# Altium footprint library transform.PcbLib: 46 footprints (part 3 of 3)
Each footprint in its own frame and in the unit in brackets; x right, y up, seen from the top. Pads: shape width x height; smd on the part's side, far side on the other; paste and mask are expansions set on the pad; w line width, h text height; cw(c..) or ccw(c..) is an arc to the next point about the centre after c.
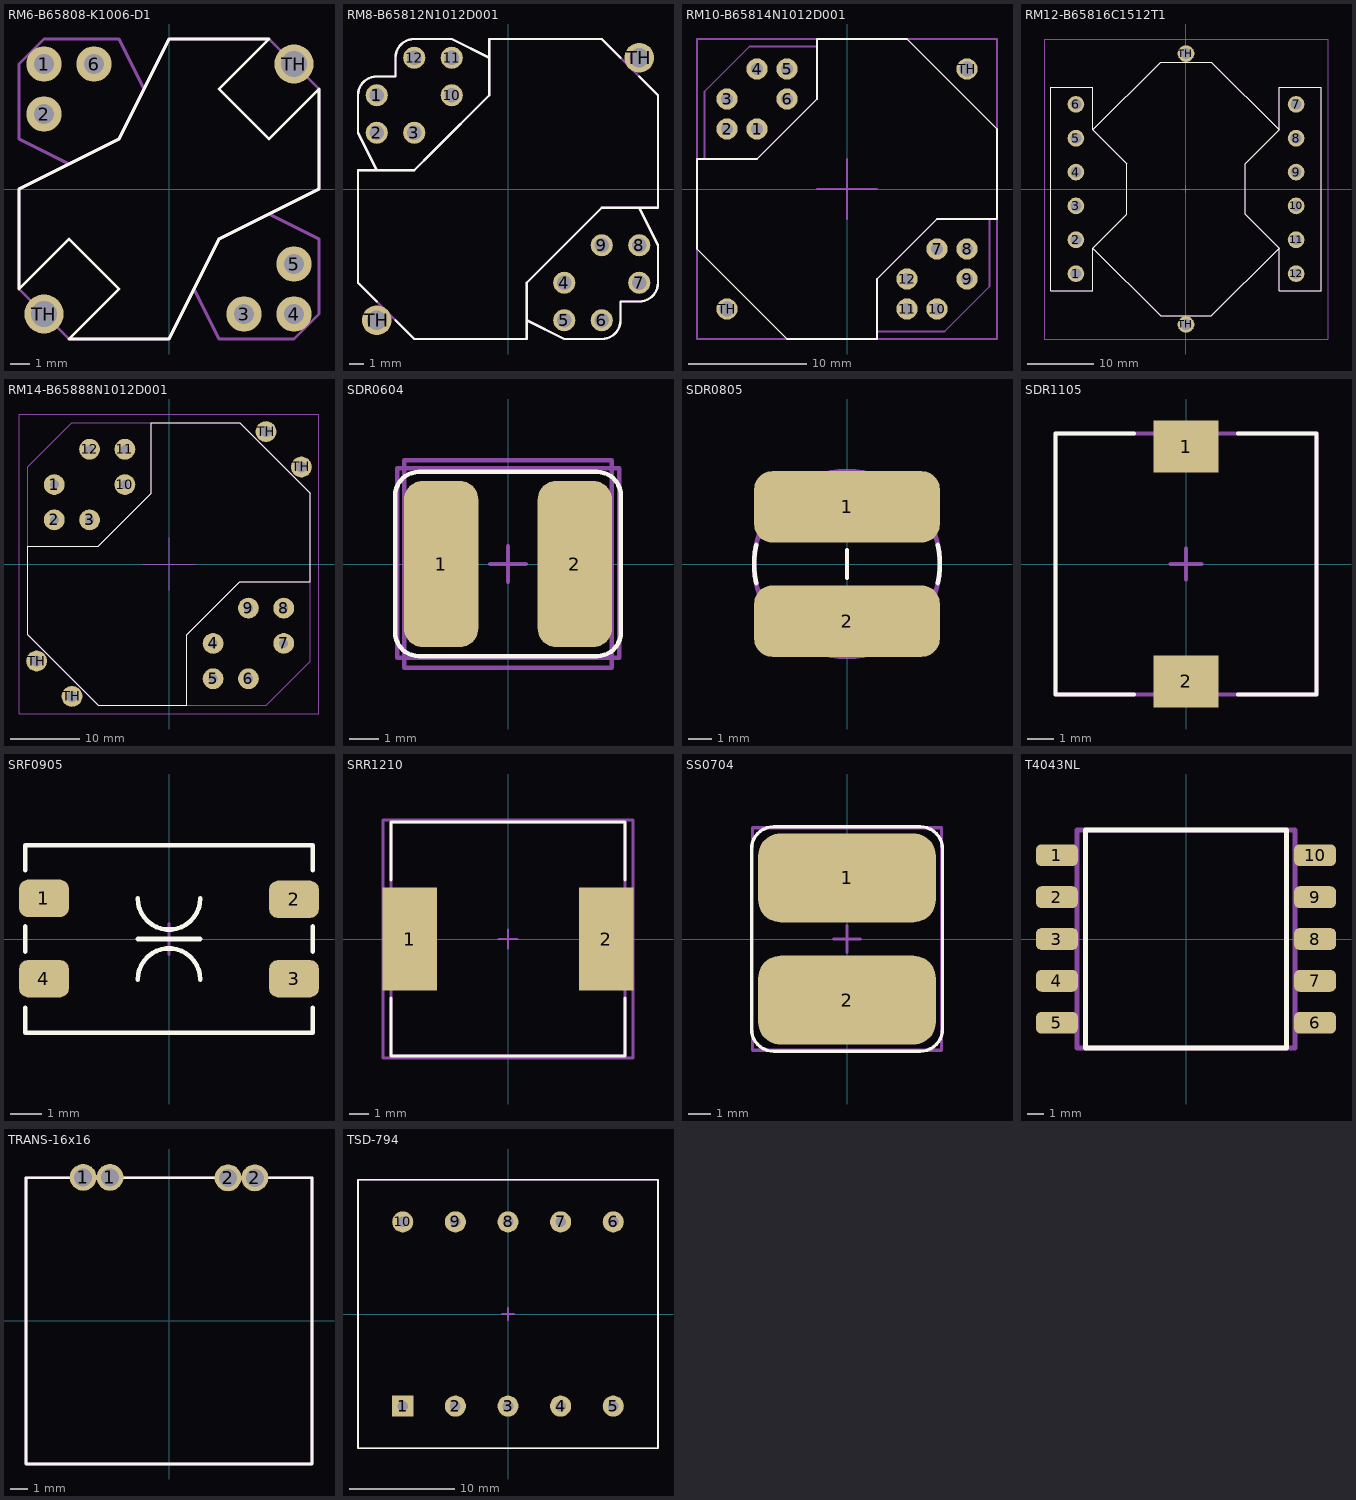
[diagram p2: the footprints below, top view; thin cyan lines are the x and y axes]

## RM6-B65808-K1006-D1 [mm]
height 15
pads (8):
  round 1.8 hole 1: 1(-6.35,6.35) 2(-6.35,3.81) 3(3.81,-6.35) 4(6.35,-6.35) 5(6.35,-3.81) 6(-3.81,6.35)
  round 2 hole 1.3: TH(-6.35,-6.35) TH(6.35,6.35)
Top Overlay:
  lines w0.15: -7.62,-5.08 -7.62,0 -2.54,2.54 0,7.62 5.08,7.62 2.54,5.08 5.08,2.54 7.62,5.08 7.62,0 2.54,-2.54 0,-7.62 -5.08,-7.62 -2.54,-5.08 -5.08,-2.54 -7.62,-5.08
Mechanical 29:
  lines w0.15: -5.08,1.27 -7.62,2.54 -7.62,6.35 -6.35,7.62 -2.54,7.62 -1.27,5.08 ; 1.27,-5.08 2.54,-7.62 3.81,-7.62 6.35,-7.62 7.62,-6.35 7.62,-2.54 5.08,-1.27 ; -7.62,-5.08 -7.62,0 -2.54,2.54 0,7.62 5.08,7.62 7.62,5.08 7.62,0 2.54,-2.54 0,-7.62 -5.08,-7.62 -7.62,-5.08
3D body "RM6.STEP": height 12.6, standoff -4.67, extent -7.843,-7.843 7.843,7.843

## RM8-B65812N1012D001 [mm]
height 17
pads (14):
  round 1.5 hole 1: 1(-8.89,6.35) 2(-8.89,3.81) 3(-6.35,3.81) 4(3.81,-6.35) 5(3.81,-8.89) 6(6.35,-8.89) 7(8.89,-6.35) 8(8.89,-3.81) 9(6.35,-3.81) 10(-3.81,6.35) 11(-3.81,8.89) 12(-6.35,8.89)
  round 2 hole 1.3: TH(-8.89,-8.89) TH(8.89,8.89)
Top Overlay:
  lines w0.15: -8.89,-7.62 -10.16,-6.35 -10.16,1.27 -6.35,1.27 -5.08,2.54 -1.27,6.35 -1.27,10.16 6.35,10.16 7.62,8.89 ; -8.89,1.27 -10.16,3.81 -10.16,6.35 cw(c-8.89,6.35) -8.89,7.62 -7.62,7.62 -7.62,8.89 cw(c-6.35,8.89) -6.35,10.16 -3.81,10.16 -1.27,8.89 ; -7.62,-8.89 -6.35,-10.16 1.27,-10.16 1.27,-6.35 6.35,-1.27 10.16,-1.27 10.16,5.08 10.16,6.35 8.89,7.62 ; 1.27,-8.89 3.81,-10.16 6.35,-10.16 ccw(c6.35,-8.89) 7.62,-8.89 7.62,-7.62 8.89,-7.62 ccw(c8.89,-6.35) 10.16,-6.35 10.16,-3.81 8.89,-1.27
Mechanical 29:
  lines w0.15: -8.89,1.27 -10.16,3.81 -10.16,6.35 cw(c-8.89,6.35) -8.89,7.62 -7.62,7.62 -7.62,8.89 cw(c-6.35,8.89) -6.35,10.16 -3.81,10.16 -1.27,8.89 ; 1.27,-8.89 3.81,-10.16 6.35,-10.16 ccw(c6.35,-8.89) 7.62,-8.89 7.62,-7.62 8.89,-7.62 ccw(c8.89,-6.35) 10.16,-6.35 10.16,-3.81 8.89,-1.27 ; -10.16,-6.35 -7.62,-8.89 -6.35,-10.16 1.27,-10.16 1.27,-6.35 6.35,-1.27 10.16,-1.27 10.16,5.08 10.16,6.35 7.62,8.89 6.35,10.16 -1.27,10.16 -1.27,6.35 -5.08,2.54 -6.35,1.27 -10.16,1.27 -10.16,-6.35
3D body "RM8.STEP": height 16.75, standoff -3.07, extent -10.51,-10.51 10.512,10.51

## RM10-B65814N1012D001 [mm]
pads (14):
  round 1.8 hole 1: 1(-7.62,5.08) 2(-10.16,5.08) 3(-10.16,7.62) 4(-7.62,10.16) 5(-5.08,10.16) 6(-5.08,7.62) 7(7.62,-5.08) 8(10.16,-5.08) 9(10.16,-7.62) 10(7.62,-10.16) 11(5.08,-10.16) 12(5.08,-7.62)
  round 1.8 hole 1.3: TH(-10.16,-10.16) TH(10.16,10.16)
Top Overlay:
  lines w0.15: -12.7,-5.08 -12.7,2.54 -7.62,2.54 -2.54,7.62 -2.54,12.7 5.08,12.7 12.7,5.08 12.7,-2.54 7.62,-2.54 2.54,-7.62 2.54,-12.7 -5.08,-12.7 -12.7,-5.08
Mechanical 15:
  lines w0.15: -2.54,0 2.54,0 ; 0,-2.54 0,2.54 ; -12.7,-12.7 12.7,-12.7 12.7,12.7 -12.7,12.7 -12.7,-12.7
Mechanical 29:
  lines w0.15: -12.065,2.54 -12.065,8.255 -8.255,12.065 -2.54,12.065 ; 2.54,-12.065 8.255,-12.065 12.065,-8.255 12.065,-2.54 ; -12.7,-5.08 -12.7,2.54 -7.62,2.54 -2.54,7.62 -2.54,12.7 5.08,12.7 12.7,5.08 12.7,-2.54 7.62,-2.54 2.54,-7.62 2.54,-12.7 -5.08,-12.7 -12.7,-5.08
3D body: height 2, standoff 1.5, extent -9.08,5.08 -3.175,12.065
3D body: height 2, standoff 1.5, extent 3.175,-12.065 9.079,-5.08
3D body: height 2, standoff 1.5, extent 5.08,-9.08 12.065,-3.175
3D body: height 19, standoff 0.5, extent -12.7,-12.7 12.7,12.7
3D body: height 4, standoff -3, extent -10.46,4.78 -9.86,5.38
3D body: height 4, standoff -3, extent -10.46,7.32 -9.86,7.92
3D body: height 4, standoff -3, extent -7.92,9.86 -7.32,10.46
3D body: height 4, standoff -3, extent -5.38,9.86 -4.78,10.46
3D body: height 4, standoff -3, extent -5.38,7.32 -4.78,7.92
3D body: height 4, standoff -3, extent -7.92,4.78 -7.32,5.38
3D body: height 4, standoff -3, extent 7.32,-5.38 7.92,-4.78
3D body: height 4, standoff -3, extent 9.86,-5.38 10.46,-4.78
3D body: height 4, standoff -3, extent 9.86,-7.92 10.46,-7.32
3D body: height 4, standoff -3, extent 7.32,-10.46 7.92,-9.86
3D body: height 4, standoff -3, extent 4.78,-10.46 5.38,-9.86
3D body: height 4, standoff -3, extent 4.78,-7.92 5.38,-7.32
3D body: height 2, standoff 1.5, extent -12.065,3.175 -5.08,9.079

## RM12-B65816C1512T1 [mm]
pads (14):
  round 2.5 hole 1.6: 1(-16.51,-12.7) 2(-16.51,-7.62) 3(-16.51,-2.54) 4(-16.51,2.54) 5(-16.51,7.62) 6(-16.51,12.7) 7(16.51,12.7) 8(16.51,7.62) 9(16.51,2.54) 10(16.51,-2.54) 11(16.51,-7.62) 12(16.51,-12.7) TH(0,-20.32) TH(0,20.32)
Top Overlay:
  lines w0.15: -13.97,-8.89 -3.81,-19.05 0,-19.05 3.81,-19.05 13.97,-8.89 ; -13.97,-8.89 -8.89,-3.81 -8.89,0 -8.89,3.81 -13.97,8.89 ; -13.97,-8.89 -13.97,-15.24 -16.51,-15.24 -20.32,-15.24 -20.32,0 -20.32,15.24 -16.51,15.24 -13.97,15.24 -13.97,8.89 ; -13.97,8.89 -3.81,19.05 0,19.05 3.81,19.05 13.97,8.89 ; 13.97,-8.89 8.89,-3.81 8.89,0 8.89,3.81 13.97,8.89 ; 13.97,-8.89 13.97,-12.7 13.97,-15.24 20.32,-15.24 20.32,0 20.32,15.24 16.51,15.24 13.97,15.24 13.97,8.89
Mechanical 15:
  lines w0.15: -0.6,0 0,0 ; 0,-0.6 0,0 ; 0,0.6 0,0 ; 0.6,0 0,0 ; -21.25,-22.5 -21.25,22.5 21.25,22.5 21.25,-22.5 -21.25,-22.5
Mechanical 29:
  lines w0.15: -13.97,-8.89 -3.81,-19.05 0,-19.05 3.81,-19.05 13.97,-8.89 ; -13.97,-8.89 -13.97,-15.24 -16.51,-15.24 -20.32,-15.24 -20.32,0 -20.32,15.24 -16.51,15.24 -13.97,15.24 -13.97,8.89 ; -13.97,-8.89 -8.89,-3.81 -8.89,0 -8.89,3.81 -13.97,8.89 ; -13.97,8.89 -3.81,19.05 0,19.05 3.81,19.05 13.97,8.89 ; 13.97,-8.89 8.89,-3.81 8.89,0 8.89,3.81 13.97,8.89 ; 13.97,-8.89 13.97,-12.7 13.97,-15.24 20.32,-15.24 20.32,0 20.32,15.24 16.51,15.24 13.97,15.24 13.97,8.89
3D body: height 0.2, standoff -4.8, extent -17.01,-13.2 -16.01,-12.2
3D body: height 0.2, standoff -4.8, extent -17.01,-8.12 -16.01,-7.12
3D body: height 0.2, standoff -4.8, extent -17.01,-3.04 -16.01,-2.04
3D body: height 0.2, standoff -4.8, extent -17.01,2.04 -16.01,3.04
3D body: height 0.2, standoff -4.8, extent -17.01,7.12 -16.01,8.12
3D body: height 0.2, standoff -4.8, extent -17.01,12.2 -16.01,13.2
3D body: height 0.2, standoff -4.8, extent 16.01,-13.2 17.01,-12.2
3D body: height 0.2, standoff -4.8, extent 16.01,-8.12 17.01,-7.12
3D body: height 0.2, standoff -4.8, extent 16.01,-3.04 17.01,-2.04
3D body: height 0.2, standoff -4.8, extent 16.01,2.04 17.01,3.04
3D body: height 0.2, standoff -4.8, extent 16.01,7.12 17.01,8.12
3D body: height 0.2, standoff -4.8, extent 16.01,12.2 17.01,13.2
3D body: height 25.5, standoff 0, extent -3.81,-20.32 3.81,-17.78
3D body: height 25.5, standoff 0, extent -3.81,17.78 3.81,20.32
3D body: height 5, standoff 0.5, extent -17.78,-15.24 17.78,15.24
3D body: height 25, standoff 0.5, extent -13.97,-19.05 13.97,19.05
3D body: height 22, standoff 3, extent -13,-13 13,13
3D body: height 2.5, standoff 1.5, extent -20.32,-13.2 -15.32,-12.2
3D body: height 2.5, standoff 1.5, extent -20.32,-8.12 -15.32,-7.12
3D body: height 2.5, standoff 1.5, extent -20.32,-3.04 -15.32,-2.04
3D body: height 2.5, standoff 1.5, extent -20.32,2.04 -15.32,3.04
3D body: height 2.5, standoff 1.5, extent -20.32,7.12 -15.32,8.12
3D body: height 2.5, standoff 1.5, extent -20.32,12.2 -15.32,13.2
3D body: height 2.5, standoff 1.5, extent 15.32,12.2 20.32,13.2
3D body: height 2.5, standoff 1.5, extent 15.32,7.12 20.32,8.12
3D body: height 2.5, standoff 1.5, extent 15.32,2.04 20.32,3.04
3D body: height 2.5, standoff 1.5, extent 15.32,-3.04 20.32,-2.04
3D body: height 2.5, standoff 1.5, extent 15.32,-8.12 20.32,-7.12
3D body: height 2.5, standoff 1.5, extent 15.32,-13.2 20.32,-12.2

## RM14-B65888N1012D001 [mm]
height 30
pads (16):
  round 3 hole 1.3: 1(-16.51,11.43) 2(-16.51,6.35) 3(-11.43,6.35) 4(6.35,-11.43) 5(6.35,-16.51) 6(11.43,-16.51) 7(16.51,-11.43) 8(16.51,-6.35) 9(11.43,-6.35) 10(-6.35,11.43) 11(-6.35,16.51) 12(-11.43,16.51)
  round 3 hole 1.6: TH(-19.05,-13.97) TH(-13.97,-19.05) TH(13.97,19.05) TH(19.05,13.97)
Top Overlay:
  lines w0.15: -20.32,-10.16 -10.16,-20.32 2.54,-20.32 2.54,-10.16 10.16,-2.54 20.32,-2.54 20.32,10.16 10.16,20.32 -2.54,20.32 -2.54,10.16 -10.16,2.54 -20.32,2.54 -20.32,-10.16
Mechanical 15:
  lines w0.15: -3.81,0 3.81,0 ; 0,-3.81 0,3.81 ; -21.59,-21.59 -21.59,21.59 21.59,21.59 21.59,-21.59 -21.59,-21.59
Mechanical 29:
  lines w0.15: -20.32,2.54 -10.16,2.54 -2.54,10.16 -2.54,20.32 ; -20.32,2.54 -20.32,-10.16 -10.16,-20.32 2.54,-20.32 ; -20.32,2.54 -20.32,13.97 -13.97,20.32 -2.54,20.32 ; -2.54,20.32 10.16,20.32 20.32,10.16 20.32,-2.54 ; 2.54,-20.32 2.54,-10.16 10.16,-2.54 20.32,-2.54 ; 2.54,-20.32 13.97,-20.32 20.32,-13.97 20.32,-2.54
3D body: height 30, standoff 0.5, extent -20.32,-20.32 20.32,20.32
3D body: height 25, standoff 5, extent -14,-14 14,14

## SDR0604 [mm]
pads (2):
  rrect50% 2.5x5.6 smd: 1(-2.25,0) 2(2.25,0)
Top Overlay:
  lines w0.15: -3.8,-2.3 ccw(c-3,-2.3) -3,-3.1 3,-3.1 ccw(c3,-2.3) 3.8,-2.3 3.8,2.3 ccw(c3,2.3) 3,3.1 -3,3.1 ccw(c-3,2.3) -3.8,2.3 -3.8,-2.3
Mechanical 15:
  lines w0.15: -0.6,0 0,0 ; 0,-0.6 0,0 ; 0,0.6 0,0 ; 0.6,0 0,0 ; -3.5,-3.5 -3.5,3.5 3.5,3.5 3.5,-3.5 -3.5,-3.5
Mechanical 29:
  lines w0.15: -3.725,-3.15 -3.725,3.225 3.75,3.225 3.75,-3.15 -3.725,-3.15
3D body "User Library-SDR0604.STEP": height 4.55, standoff 0, extent -2.729,-2.825 2.779,2.775

## SDR0805 [mm]
height 5.5
pads (2):
  rrect50% 7.8x3 smd: 1(0,2.4) 2(0,-2.4)
Top Overlay:
  lines w0.15: 0,-0.6 0,0.6
  lines w0.2: -3.816,-0.803 cw(c0,0) -3.816,0.803 ; 3.816,-0.803 ccw(c0,0) 3.816,0.803
Top Courtyard:
  circle w0.2: c0,0 r3.9
3D body: height 5.8, standoff 0.5, extent -3.9,-3.9 3.9,3.9

## SDR1105 [mm]
pads (2):
  rect 2.5x2 smd: 1(0,4.5) 2(0,-4.5)
Top Overlay:
  lines w0.15: -2,-5 -5,-5 -5,5 -2,5 ; 2,-5 5,-5 5,5 2,5
Top Courtyard:
  lines w0.15: -5,-5 5,-5 5,5 -5,5 -5,-5
Mechanical 15:
  lines w0.15: -0.6,0 0,0 ; 0,-0.6 0,0 ; 0,0.6 0,0 ; 0.6,0 0,0
3D body: height 1.5, standoff 0.5, extent -5,-4.998 5,4.999
3D body: height 5.3, standoff 0.5, extent -5,-5 5,5

## SRF0905 [mm] "9.2 X 6 X 5mm"
height 5
pads (4):
  rrect50% 1.6x1.2 smd: 1(-4,1.3) 2(4,1.27) 3(4,-1.27) 4(-4,-1.27)
Top Overlay:
  lines w0.15: -4.6,-2.2 -4.6,-3 4.6,-3 4.6,-2.2 ; -4.6,-0.4 -4.6,0.4 ; -4.6,2.2 -4.6,3 4.6,3 4.6,2.2 ; -1,-1.3 cw(c0,-1.3) 1,-1.3 ; -1,0 1,0 ; -1,1.3 ccw(c0,1.3) 1,1.3 ; 4.6,-0.4 4.6,0.4
Top Courtyard:
  lines w0.1: -0.5,0 0.5,0 ; 0,-0.5 0,0.5
3D body: height 5, standoff 0, extent -4.6,-3 4.6,3

## SRR1210 [mm] "Precision Wire Wound Inductor, 2-Leads, Body 12,00x12,00mm, IPC High Density"
height 10
pads (2):
  rect 2.8x5.3 smd: 1(-5.05,0) 2(5.05,0)
Top Overlay:
  lines w0.15: -6,-3.025 -6,-6 6,-6 6,-3.025 ; -6,3.025 -6,6 6,6 6,3.025
Top Courtyard:
  lines w0.15: -6,-6 6,-6 6,6 -6,6 -6,-6
Top 3D Body:
  lines w0.1: -0.5,0 0.5,0 ; 0,-0.5 0,0.5
  lines w0.15: -6.425,-6.1 6.425,-6.1 6.425,6.1 -6.425,6.1 -6.425,-6.1
3D body "SRR1210.step": height 10.1, standoff 0, extent -6.1,-6 6.1,6

## SS0704 [mm]
pads (2):
  rrect50% 8x4 smd: 1(0,2.75) 2(0,-2.75)
Top Overlay:
  lines w0.15: -4.3,-4.05 ccw(c-3.3,-4.05) -3.3,-5.05 3.3,-5.05 ccw(c3.3,-4.05) 4.3,-4.05 4.3,4.05 ccw(c3.3,4.05) 3.3,5.05 -3.3,5.05 ccw(c-3.3,4.05) -4.3,4.05 -4.3,-4.05
Mechanical 15:
  lines w0.15: -0.6,0 0,0 ; 0,-0.6 0,0 ; 0,0.6 0,0 ; 0.6,0 0,0 ; -4.25,-5 -4.25,5 4.25,5 4.25,-5 -4.25,-5
3D body "SS0704.STEP": height 4, standoff 0, extent -3.775,-3.7 3.725,3.8

## T4043NL [mm]
pads (10):
  rrect50% 2.5x1.3 smd: 1(-7.7,5) 2(-7.7,2.5) 3(-7.7,0) 4(-7.7,-2.5) 5(-7.7,-5) 6(7.7,-5) 7(7.7,-2.5) 8(7.7,0) 9(7.7,2.5) 10(7.7,5)
Top Overlay:
  lines w0.3: -6,-6.5 6,-6.5 6,6.5 -6,6.5 -6,-6.5
  text "." at -7.502,6.411 h0.1
Top Courtyard:
  lines w0.3: -6.5,-6.5 -6.5,6.5 6.5,6.5 6.5,-6.5 -6.5,-6.5
3D body: height 12.3, standoff 2.5, extent -6.5,-6.5 6.5,6.5
3D body: height 2.5, standoff 0, extent -6.5,-6.5 -3.5,6.5
3D body: height 2.5, standoff 0, extent 3.5,-6.5 6.5,6.5

## TRANS-16x16 [mm]
pads (4):
  round 1.5 hole 1: 1(-4.8,8.025) 1(-3.3,8.025) 2(3.3,8) 2(4.8,8)
Top Overlay:
  lines w0.15: -8,-8 8,-8 8,8 -8,8 -8,-8
Mechanical 29:
  lines w0.15: -8,-8 8,-8 8,8 -8,8 -8,-8
3D body "������������16�9�7.STEP": height 9.5, standoff 0.5, extent -8,-0.5 8,6.5
3D body "������������16�9�7.STEP": height 9.5, standoff 0.5, extent -8,-7.6 8,-0.6
3D body: height 0.5, standoff 0, extent -5.999,-6.999 5.999,5.999

## TSD-794 [mm]
height 25
pads (10):
  rect 2x2 hole 1: 1(-10,-8.75)
  round 2 hole 1: 2(-5,-8.75) 3(0,-8.75) 4(5,-8.75) 5(10,-8.75) 6(10,8.75) 7(5,8.75) 8(0,8.75) 9(-5,8.75) 10(-10,8.75)
Top Overlay:
  lines w0.15: -14.25,-12.75 14.25,-12.75 14.25,12.75 -14.25,12.75 -14.25,-12.75
Mechanical 15:
  lines w0.15: -0.6,0 0,0 ; 0,-0.6 0,0 ; 0,0.6 0,0 ; 0.6,0 0,0 ; -14.25,-12.75 -14.25,12.75 14.25,12.75 14.25,-12.75 -14.25,-12.75
3D body "B66208W.step": height 26.2, standoff -3.25, extent -13.75,-8.652 13.75,8.652